# EAGLE library part LPC1114LVFHN24 (library nxp_60_1_1)
32-bit ARM Cortex-M0 microcontroller The LPC111xLV/LPC11xxLVUK is an ARM Cortex-M0-based, low-cost 32-bit MCU family, designed for 8/16-bit microcontroller applications, offering performance, low power, simple instruction set and memory addressing together with reduced code size compared to existing 8/16-bit architectures. The LPC111xLV/LPC11xxLVUK operate at CPU frequencies of up to 50 MHz. The peripherals of the LPC111xLV/LPC11xxLVUK include up to 32 kB of flash memory, up to 8 kB of SRAM data memory, a Fast-mode Plus I 2 C-bus interface, one SSP/SPI interface, one UART, four general-purpose counter/timers, an 8-bit ADC, and up to 27 general-purpose I/O pins. MK - Datasheet available on www.nxp.com
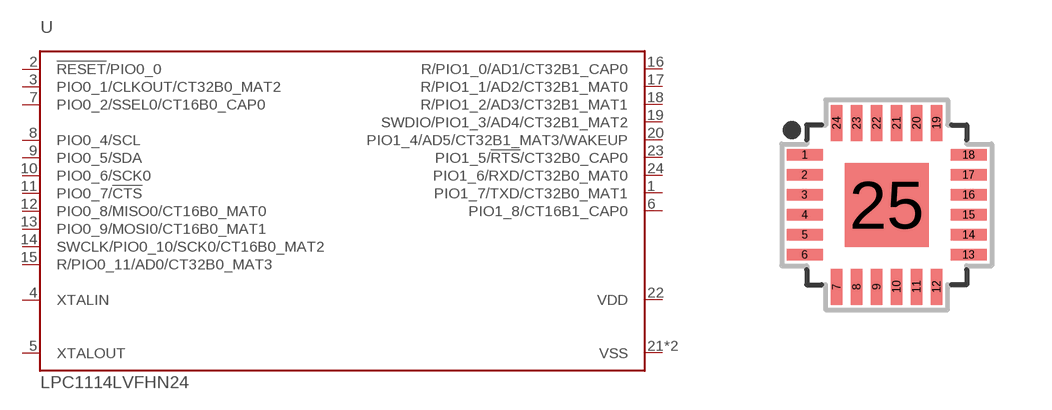
[diagram p120: symbol with the pads of SOT616; footprint SOT616]

Designator prefix U

## LPC1114LVFHN24  [SOT616]
1  PIO1_7/TXD/CT32B0_MAT1
2  !RESET!/PIO0_0
3  PIO0_1/CLKOUT/CT32B0_MAT2
4  XTALIN  in
5  XTALOUT  out
6  PIO1_8/CT16B1_CAP0
7  PIO0_2/SSEL0/CT16B0_CAP0
8  PIO0_4/SCL
9  PIO0_5/SDA
10  PIO0_6/SCK0
11  PIO0_7/!CTS!
12  PIO0_8/MISO0/CT16B0_MAT0
13  PIO0_9/MOSI0/CT16B0_MAT1
14  SWCLK/PIO0_10/SCK0/CT16B0_MAT2
15  R/PIO0_11/AD0/CT32B0_MAT3
16  R/PIO1_0/AD1/CT32B1_CAP0
17  R/PIO1_1/AD2/CT32B1_MAT0
18  R/PIO1_2/AD3/CT32B1_MAT1
19  SWDIO/PIO1_3/AD4/CT32B1_MAT2
20  PIO1_4/AD5/CT32B1_MAT3/WAKEUP
21  VSS  pwr
22  VDD  pwr
23  PIO1_5/!RTS!/CT32B0_CAP0
24  PIO1_6/RXD/CT32B0_MAT0
25  VSS  pwr

## Footprint SOT616 (pad centres in mm)
SOT616 HVQFN24: plastic thermal enhanced very thin quad flat package; no leads; 24 terminals; body 4 x 4 x 0.85 mm JEDEC: MO-220 IEC: -- JEITA: --
smd 0.9 x 0.29: 1 -2.05,1.25; 2 -2.05,0.75; 3 -2.05,0.25; 4 -2.05,-0.25; 5 -2.05,-0.75; 6 -2.05,-1.25; 13 2.05,-1.25; 14 2.05,-0.75; 15 2.05,-0.25; 16 2.05,0.25; 17 2.05,0.75; 18 2.05,1.25
smd 0.29 x 0.9: 7 -1.25,-2.05; 8 -0.75,-2.05; 9 -0.25,-2.05; 10 0.25,-2.05; 11 0.75,-2.05; 12 1.25,-2.05; 19 1.25,2.05; 20 0.75,2.05; 21 0.25,2.05; 22 -0.25,2.05; 23 -0.75,2.05; 24 -1.25,2.05
smd 2.1 x 2.1: 25 0,0